# Altium schematic symbol library sch_Oscillator.SchLib: 8 symbols
Pins are listed as number, name and electrical type; pins without a type are passive.

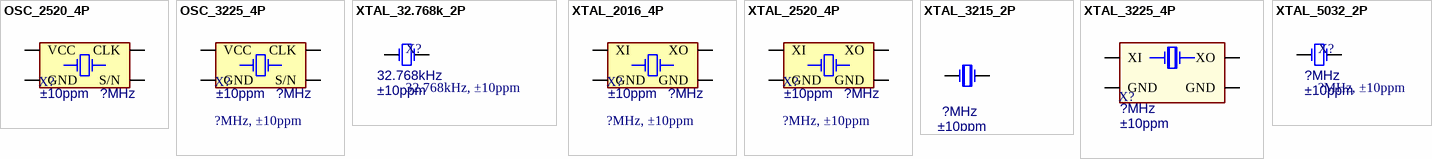
[diagram p0: symbols OSC_2520_4P to XTAL_5032_2P]

## OSC_2520_4P
designator X?, comment value ?MHz  Note: ±10ppm  (hidden comment: ?MHz, ±10ppm)
Crystal Oscillator; MFR: Mfr?; PartNumber: OSC_2520_4P; Package: OSC2520_4P
footprint X2520-4P
pins: 1 S/N, 2 GND, 3 CLK, 4 VCC

## OSC_3225_4P
designator X?, comment ?MHz, ±10ppm  value ?MHz  Note: ±10ppm
Crystal Oscillator; MFR: Mfr?; PartNumber: OSC_3225_4P; Package: OSC3225_4P
footprint X3225-4P
pins: 1 S/N, 2 GND, 3 CLK, 4 VCC

## XTAL_32.768k_2P
designator X?, comment 32.768kHz, ±10ppm  value 32.768kHz  Note: ±10ppm
Crystal Oscillator; MFR: Mfr?; PartNumber: XTAL_32.768k_2P; Package: XTAL2012_2P
footprint X3215-2P
footprint X2012-2P (FC-12M)
pins: 1 OSC1, 2 OSC2

## XTAL_2016_4P
designator X?, comment ?MHz, ±10ppm  value ?MHz  Note: ±10ppm
Crystal Oscillator; MFR: Mfr?; PartNumber: XTAL_2016_4P; Package: XTAL2016_4P
footprint X2016-4P
pins: 1 XI, 2 GND, 3 XO, 4 GND

## XTAL_2520_4P
designator X?, comment ?MHz, ±10ppm  value ?MHz  Note: ±10ppm
Crystal Oscillator; MFR: Mfr?; PartNumber: XTAL_2520_4P; Package: XTAL2520_4P
footprint X2520-4P
pins: 1 XI, 2 GND, 3 XO, 4 GND

## XTAL_3215_2P
designator X?, comment ?MHz, ±10ppm  value ?MHz  Note: ±10ppm
Crystal Oscillator; MFR: Mfr?; PartNumber: XTAL_3215_2P; Package: XTAL_3215_2P
footprint X3215-2P
pins: 1 OSC1, 2 OSC2

## XTAL_3225_4P
designator X?, comment value ?MHz  Note: ±10ppm  (hidden comment: ?MHz, ±10ppm)
Crystal Oscillator; MFR: Mfr?; PartNumber: XTAL_3225_4P; Package: XTAL_3225_4P
footprint X3225-4P
pins: 1 XI, 2 GND, 3 XO, 4 GND

## XTAL_5032_2P
designator X?, comment ?MHz, ±10ppm  value ?MHz  Note: ±10ppm
Crystal Oscillator; MFR: Mfr?; PartNumber: XTAL_5032_2P; Package: XTAL5032_2P
footprint X5032-2P
pins: 1 OSC1, 2 OSC2